# Altium integrated library Linear Technology Operational Amplifiers (LT1000).IntLib: 2280 symbols (part 64 of 79)
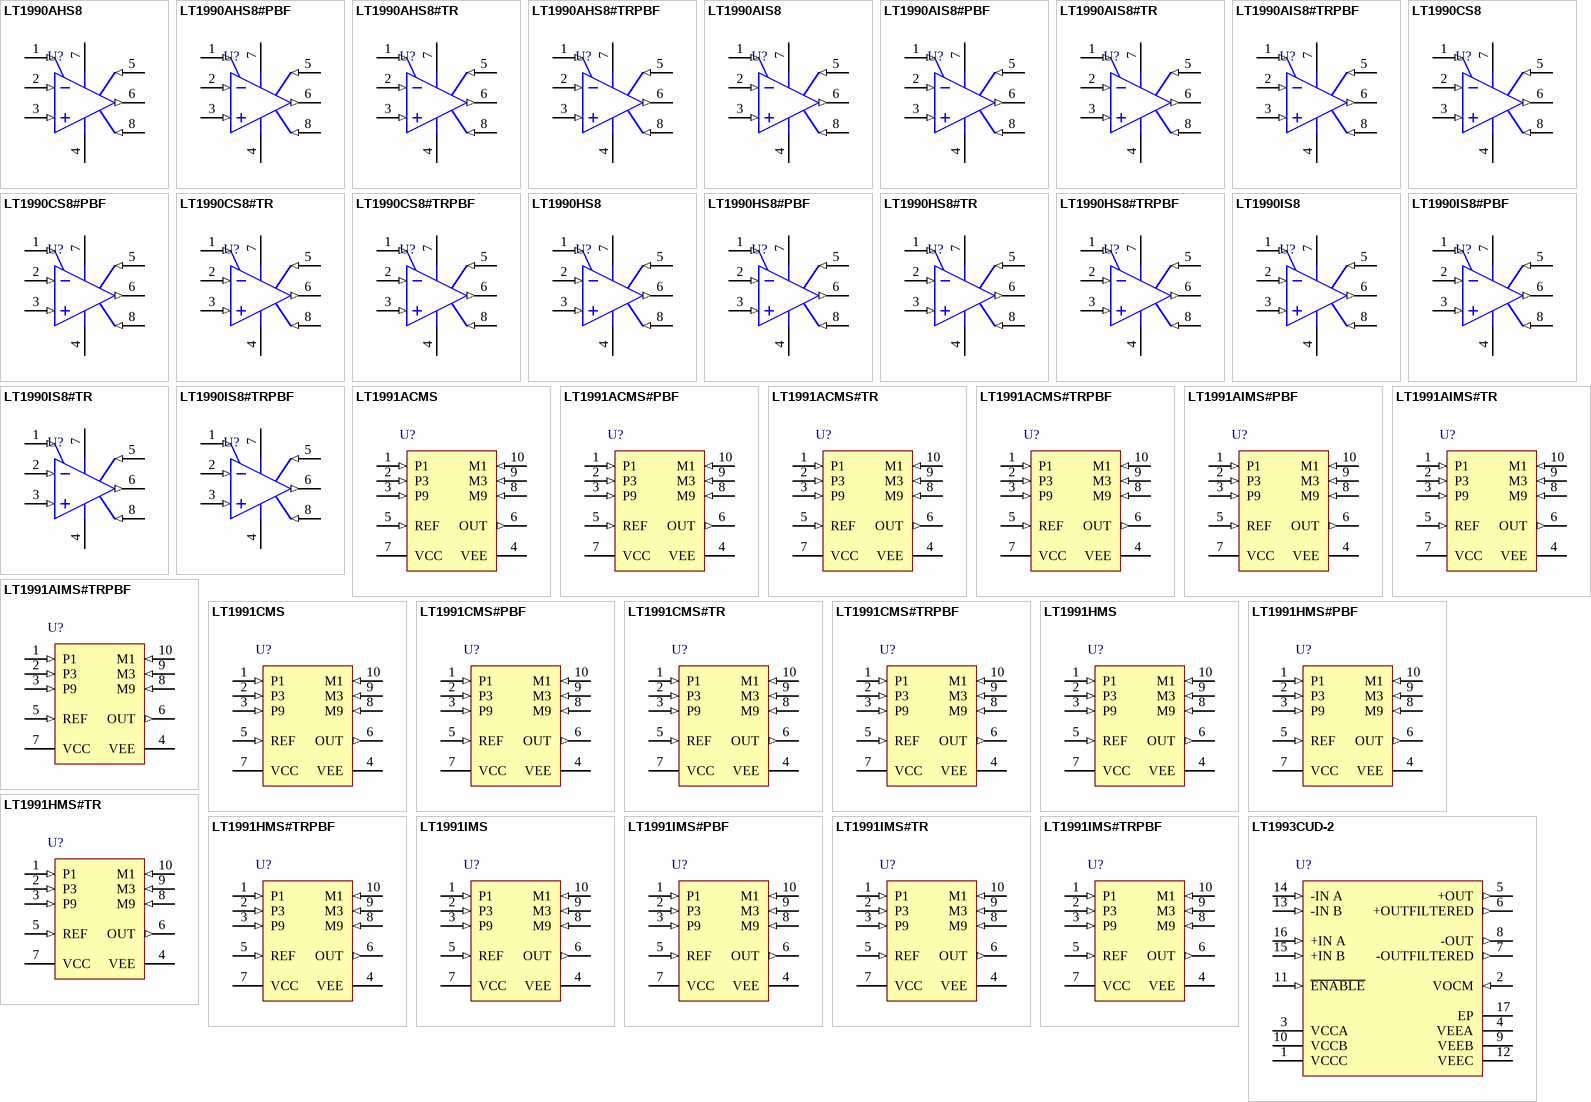
[diagram p168: symbols LT1990AHS8 to LT1993CUD-2]

## LT1990AIS8#PBF
designator U?
Single Channel, Integrated Resistors, Micropower, Difference Amplifier, 0.1 MHz Typical GBW, 0.55 V/us Typical SR, 2.4 to 36 V, 8-Pin SOIC (S8-8), Industrial, Pb-Free; Linear Technology Part Number: LT1990; Manufacturer: Linear Technology; PartNumber: LT1990AIS8#PBF; Channels (#): 1; GBW (MHz) Typical: 0.1; Is (mA) Typical: 0.14; SR (V/us) Typical: 0.55; Vos (mV) Guaranteed: 5.2; Vos (mV) Typical: 0.9; Vs Max (V): 36; Vs Min (V): 2.4; DatasheetVersion: Rev. B; PackageVersion: Rev G; PackageReference: LT-S8-8; PackageDescription: 8-Pin Plastic Small Outline, Body 4.9 x 3.9 mm, Pitch 1.27 mm; Supplier 1: Digi-Key; Supplier Part Number 1: LT1990AIS8#PBF-ND; Supplier 2: Farnell; Supplier Part Number 2: 2294658; Supplier 3: Newark; Supplier Part Number 3: 57M7655; RoHS: Pb-Free; Type: SGA; Mounting Technology: Surface Mount; ComponentLink1Description: Manufacturer URL; ComponentLink1URL: http://www.linear.com/; ComponentLink2Description: Datasheet; ComponentLink2URL: http://cds.linear.com/docs/en/datasheet/1990fb.pdf; ComponentLink3Description: Package Specification; ComponentLink3URL: http://cds.linear.com/docs/en/packaging/05081610_G_SO8.pdf
footprint LT-S8-8_N (SOIC, 8-Leads, Body 4.9x3.9mm, Pitch 1.27mm, IPC Medium Density)
footprint LT-S8-8_L (SOIC, 8-Leads, Body 4.9x3.9mm, Pitch 1.27mm, IPC High Density)
footprint LT-S8-8_M (SOIC, 8-Leads, Body 4.9x3.9mm, Pitch 1.27mm, IPC Low Density)
pins: 1 REF (in) "Reference Input. Sets the output level when the difference between the inputs is zero.", 2 -IN (in) "Inverting Input. Connects a 1Mohm resistor to the op amp’s inverting input. Designed to permit high voltage operation.", 3 +IN (in) "Noninverting Input. Connects a 1Mohm resistor to the op amp’s noninverting input. Designed to permit high voltage operation.", 4 V- (power) "Negative Power Supply. Can be either ground (in single supply applications) or a negative voltage (in split supply applications).", 5 GAIN2 (in) "Gain = 10 Select Input. Configures the amplifier for a gain of 10 when connected to the GAIN1 pin and the REF pin. The gain is equal to one when both GAIN2 and GAIN1 are open. See Applications section for additional (See Datasheet)", 6 OUT (out) "Output. VOUT = G • (V+IN - V-IN) + VREF, in the basic configuration.", 7 V+ (power) "Positive Power Supply. Can range from 2.7V to 36V above the V- voltage.", 8 GAIN1 (in) "Gain = 10 Select Input. Configures the amplifier for a gain of 10 when connected to the GAIN2 pin and the REF pin. The gain is equal to one when both GAIN1 and GAIN2 are open. See Applications section for additional (See Datasheet)"

## LT1990AIS8#TR
designator U?
Single Channel, Integrated Resistors, Micropower, Difference Amplifier, 0.1 MHz Typical GBW, 0.55 V/us Typical SR, 2.4 to 36 V, 8-Pin SOIC (S8-8), Industrial, Reel; Linear Technology Part Number: LT1990; Manufacturer: Linear Technology; PartNumber: LT1990AIS8#TR; Channels (#): 1; GBW (MHz) Typical: 0.1; Is (mA) Typical: 0.14; SR (V/us) Typical: 0.55; Vos (mV) Guaranteed: 5.2; Vos (mV) Typical: 0.9; Vs Max (V): 36; Vs Min (V): 2.4; DatasheetVersion: Rev. B; PackageVersion: Rev G; PackageReference: LT-S8-8; PackageDescription: 8-Pin Plastic Small Outline, Body 4.9 x 3.9 mm, Pitch 1.27 mm; Supplier 1: Digi-Key; Supplier Part Number 1: LT1990AIS8#TR-ND; Packing: Reel; Type: SGA; Mounting Technology: Surface Mount; ComponentLink1Description: Manufacturer URL; ComponentLink1URL: http://www.linear.com/; ComponentLink2Description: Datasheet; ComponentLink2URL: http://cds.linear.com/docs/en/datasheet/1990fb.pdf; ComponentLink3Description: Package Specification; ComponentLink3URL: http://cds.linear.com/docs/en/packaging/05081610_G_SO8.pdf
footprint LT-S8-8_N (SOIC, 8-Leads, Body 4.9x3.9mm, Pitch 1.27mm, IPC Medium Density)
footprint LT-S8-8_L (SOIC, 8-Leads, Body 4.9x3.9mm, Pitch 1.27mm, IPC High Density)
footprint LT-S8-8_M (SOIC, 8-Leads, Body 4.9x3.9mm, Pitch 1.27mm, IPC Low Density)
pins: 1 REF (in) "Reference Input. Sets the output level when the difference between the inputs is zero.", 2 -IN (in) "Inverting Input. Connects a 1Mohm resistor to the op amp’s inverting input. Designed to permit high voltage operation.", 3 +IN (in) "Noninverting Input. Connects a 1Mohm resistor to the op amp’s noninverting input. Designed to permit high voltage operation.", 4 V- (power) "Negative Power Supply. Can be either ground (in single supply applications) or a negative voltage (in split supply applications).", 5 GAIN2 (in) "Gain = 10 Select Input. Configures the amplifier for a gain of 10 when connected to the GAIN1 pin and the REF pin. The gain is equal to one when both GAIN2 and GAIN1 are open. See Applications section for additional (See Datasheet)", 6 OUT (out) "Output. VOUT = G • (V+IN - V-IN) + VREF, in the basic configuration.", 7 V+ (power) "Positive Power Supply. Can range from 2.7V to 36V above the V- voltage.", 8 GAIN1 (in) "Gain = 10 Select Input. Configures the amplifier for a gain of 10 when connected to the GAIN2 pin and the REF pin. The gain is equal to one when both GAIN1 and GAIN2 are open. See Applications section for additional (See Datasheet)"

## LT1990AIS8#TRPBF
designator U?
Single Channel, Integrated Resistors, Micropower, Difference Amplifier, 0.1 MHz Typical GBW, 0.55 V/us Typical SR, 2.4 to 36 V, 8-Pin SOIC (S8-8), Industrial, Pb-Free, Reel; Linear Technology Part Number: LT1990; Manufacturer: Linear Technology; PartNumber: LT1990AIS8#TRPBF; Channels (#): 1; GBW (MHz) Typical: 0.1; Is (mA) Typical: 0.14; SR (V/us) Typical: 0.55; Vos (mV) Guaranteed: 5.2; Vos (mV) Typical: 0.9; Vs Max (V): 36; Vs Min (V): 2.4; DatasheetVersion: Rev. B; PackageVersion: Rev G; PackageReference: LT-S8-8; PackageDescription: 8-Pin Plastic Small Outline, Body 4.9 x 3.9 mm, Pitch 1.27 mm; Supplier 1: Digi-Key; Supplier Part Number 1: LT1990AIS8#TRPBF-ND; Supplier 2: Newark; Supplier Part Number 2: 57M7657; Packing: Reel; RoHS: Pb-Free; Type: SGA; Mounting Technology: Surface Mount; ComponentLink1Description: Manufacturer URL; ComponentLink1URL: http://www.linear.com/; ComponentLink2Description: Datasheet; ComponentLink2URL: http://cds.linear.com/docs/en/datasheet/1990fb.pdf; ComponentLink3Description: Package Specification; ComponentLink3URL: http://cds.linear.com/docs/en/packaging/05081610_G_SO8.pdf
footprint LT-S8-8_N (SOIC, 8-Leads, Body 4.9x3.9mm, Pitch 1.27mm, IPC Medium Density)
footprint LT-S8-8_L (SOIC, 8-Leads, Body 4.9x3.9mm, Pitch 1.27mm, IPC High Density)
footprint LT-S8-8_M (SOIC, 8-Leads, Body 4.9x3.9mm, Pitch 1.27mm, IPC Low Density)
pins: 1 REF (in) "Reference Input. Sets the output level when the difference between the inputs is zero.", 2 -IN (in) "Inverting Input. Connects a 1Mohm resistor to the op amp’s inverting input. Designed to permit high voltage operation.", 3 +IN (in) "Noninverting Input. Connects a 1Mohm resistor to the op amp’s noninverting input. Designed to permit high voltage operation.", 4 V- (power) "Negative Power Supply. Can be either ground (in single supply applications) or a negative voltage (in split supply applications).", 5 GAIN2 (in) "Gain = 10 Select Input. Configures the amplifier for a gain of 10 when connected to the GAIN1 pin and the REF pin. The gain is equal to one when both GAIN2 and GAIN1 are open. See Applications section for additional (See Datasheet)", 6 OUT (out) "Output. VOUT = G • (V+IN - V-IN) + VREF, in the basic configuration.", 7 V+ (power) "Positive Power Supply. Can range from 2.7V to 36V above the V- voltage.", 8 GAIN1 (in) "Gain = 10 Select Input. Configures the amplifier for a gain of 10 when connected to the GAIN2 pin and the REF pin. The gain is equal to one when both GAIN1 and GAIN2 are open. See Applications section for additional (See Datasheet)"

## LT1990CS8
designator U?
Single Channel, Integrated Resistors, Micropower, Difference Amplifier, 0.1 MHz Typical GBW, 0.55 V/us Typical SR, 2.4 to 36 V, 8-Pin SOIC (S8-8), Commercial; Linear Technology Part Number: LT1990; Manufacturer: Linear Technology; PartNumber: LT1990CS8; Channels (#): 1; GBW (MHz) Typical: 0.1; Is (mA) Typical: 0.14; SR (V/us) Typical: 0.55; Vos (mV) Guaranteed: 5.2; Vos (mV) Typical: 0.9; Vs Max (V): 36; Vs Min (V): 2.4; DatasheetVersion: Rev. B; PackageVersion: Rev G; PackageReference: LT-S8-8; PackageDescription: 8-Pin Plastic Small Outline, Body 4.9 x 3.9 mm, Pitch 1.27 mm; Supplier 1: Digi-Key; Supplier Part Number 1: LT1990CS8-ND; Type: SGA; Mounting Technology: Surface Mount; ComponentLink1Description: Manufacturer URL; ComponentLink1URL: http://www.linear.com/; ComponentLink2Description: Datasheet; ComponentLink2URL: http://cds.linear.com/docs/en/datasheet/1990fb.pdf; ComponentLink3Description: Package Specification; ComponentLink3URL: http://cds.linear.com/docs/en/packaging/05081610_G_SO8.pdf
footprint LT-S8-8_N (SOIC, 8-Leads, Body 4.9x3.9mm, Pitch 1.27mm, IPC Medium Density)
footprint LT-S8-8_L (SOIC, 8-Leads, Body 4.9x3.9mm, Pitch 1.27mm, IPC High Density)
footprint LT-S8-8_M (SOIC, 8-Leads, Body 4.9x3.9mm, Pitch 1.27mm, IPC Low Density)
pins: 1 REF (in) "Reference Input. Sets the output level when the difference between the inputs is zero.", 2 -IN (in) "Inverting Input. Connects a 1Mohm resistor to the op amp’s inverting input. Designed to permit high voltage operation.", 3 +IN (in) "Noninverting Input. Connects a 1Mohm resistor to the op amp’s noninverting input. Designed to permit high voltage operation.", 4 V- (power) "Negative Power Supply. Can be either ground (in single supply applications) or a negative voltage (in split supply applications).", 5 GAIN2 (in) "Gain = 10 Select Input. Configures the amplifier for a gain of 10 when connected to the GAIN1 pin and the REF pin. The gain is equal to one when both GAIN2 and GAIN1 are open. See Applications section for additional (See Datasheet)", 6 OUT (out) "Output. VOUT = G • (V+IN - V-IN) + VREF, in the basic configuration.", 7 V+ (power) "Positive Power Supply. Can range from 2.7V to 36V above the V- voltage.", 8 GAIN1 (in) "Gain = 10 Select Input. Configures the amplifier for a gain of 10 when connected to the GAIN2 pin and the REF pin. The gain is equal to one when both GAIN1 and GAIN2 are open. See Applications section for additional (See Datasheet)"

## LT1990CS8#PBF
designator U?
Single Channel, Integrated Resistors, Micropower, Difference Amplifier, 0.1 MHz Typical GBW, 0.55 V/us Typical SR, 2.4 to 36 V, 8-Pin SOIC (S8-8), Commercial, Pb-Free; Linear Technology Part Number: LT1990; Manufacturer: Linear Technology; PartNumber: LT1990CS8#PBF; Channels (#): 1; GBW (MHz) Typical: 0.1; Is (mA) Typical: 0.14; SR (V/us) Typical: 0.55; Vos (mV) Guaranteed: 5.2; Vos (mV) Typical: 0.9; Vs Max (V): 36; Vs Min (V): 2.4; DatasheetVersion: Rev. B; PackageVersion: Rev G; PackageReference: LT-S8-8; PackageDescription: 8-Pin Plastic Small Outline, Body 4.9 x 3.9 mm, Pitch 1.27 mm; Supplier 1: Digi-Key; Supplier Part Number 1: LT1990CS8#PBF-ND; Supplier 2: Farnell; Supplier Part Number 2: 1330733; Supplier 3: Newark; Supplier Part Number 3: 57M7659; RoHS: Pb-Free; Type: SGA; Mounting Technology: Surface Mount; ComponentLink1Description: Manufacturer URL; ComponentLink1URL: http://www.linear.com/; ComponentLink2Description: Datasheet; ComponentLink2URL: http://cds.linear.com/docs/en/datasheet/1990fb.pdf; ComponentLink3Description: Package Specification; ComponentLink3URL: http://cds.linear.com/docs/en/packaging/05081610_G_SO8.pdf
footprint LT-S8-8_N (SOIC, 8-Leads, Body 4.9x3.9mm, Pitch 1.27mm, IPC Medium Density)
footprint LT-S8-8_L (SOIC, 8-Leads, Body 4.9x3.9mm, Pitch 1.27mm, IPC High Density)
footprint LT-S8-8_M (SOIC, 8-Leads, Body 4.9x3.9mm, Pitch 1.27mm, IPC Low Density)
pins: 1 REF (in) "Reference Input. Sets the output level when the difference between the inputs is zero.", 2 -IN (in) "Inverting Input. Connects a 1Mohm resistor to the op amp’s inverting input. Designed to permit high voltage operation.", 3 +IN (in) "Noninverting Input. Connects a 1Mohm resistor to the op amp’s noninverting input. Designed to permit high voltage operation.", 4 V- (power) "Negative Power Supply. Can be either ground (in single supply applications) or a negative voltage (in split supply applications).", 5 GAIN2 (in) "Gain = 10 Select Input. Configures the amplifier for a gain of 10 when connected to the GAIN1 pin and the REF pin. The gain is equal to one when both GAIN2 and GAIN1 are open. See Applications section for additional (See Datasheet)", 6 OUT (out) "Output. VOUT = G • (V+IN - V-IN) + VREF, in the basic configuration.", 7 V+ (power) "Positive Power Supply. Can range from 2.7V to 36V above the V- voltage.", 8 GAIN1 (in) "Gain = 10 Select Input. Configures the amplifier for a gain of 10 when connected to the GAIN2 pin and the REF pin. The gain is equal to one when both GAIN1 and GAIN2 are open. See Applications section for additional (See Datasheet)"

## LT1990CS8#TR
designator U?
Single Channel, Integrated Resistors, Micropower, Difference Amplifier, 0.1 MHz Typical GBW, 0.55 V/us Typical SR, 2.4 to 36 V, 8-Pin SOIC (S8-8), Commercial, Reel; Linear Technology Part Number: LT1990; Manufacturer: Linear Technology; PartNumber: LT1990CS8#TR; Channels (#): 1; GBW (MHz) Typical: 0.1; Is (mA) Typical: 0.14; SR (V/us) Typical: 0.55; Vos (mV) Guaranteed: 5.2; Vos (mV) Typical: 0.9; Vs Max (V): 36; Vs Min (V): 2.4; DatasheetVersion: Rev. B; PackageVersion: Rev G; PackageReference: LT-S8-8; PackageDescription: 8-Pin Plastic Small Outline, Body 4.9 x 3.9 mm, Pitch 1.27 mm; Supplier 1: Digi-Key; Supplier Part Number 1: LT1990CS8#TR-ND; Packing: Reel; Type: SGA; Mounting Technology: Surface Mount; ComponentLink1Description: Manufacturer URL; ComponentLink1URL: http://www.linear.com/; ComponentLink2Description: Datasheet; ComponentLink2URL: http://cds.linear.com/docs/en/datasheet/1990fb.pdf; ComponentLink3Description: Package Specification; ComponentLink3URL: http://cds.linear.com/docs/en/packaging/05081610_G_SO8.pdf
footprint LT-S8-8_N (SOIC, 8-Leads, Body 4.9x3.9mm, Pitch 1.27mm, IPC Medium Density)
footprint LT-S8-8_L (SOIC, 8-Leads, Body 4.9x3.9mm, Pitch 1.27mm, IPC High Density)
footprint LT-S8-8_M (SOIC, 8-Leads, Body 4.9x3.9mm, Pitch 1.27mm, IPC Low Density)
pins: 1 REF (in) "Reference Input. Sets the output level when the difference between the inputs is zero.", 2 -IN (in) "Inverting Input. Connects a 1Mohm resistor to the op amp’s inverting input. Designed to permit high voltage operation.", 3 +IN (in) "Noninverting Input. Connects a 1Mohm resistor to the op amp’s noninverting input. Designed to permit high voltage operation.", 4 V- (power) "Negative Power Supply. Can be either ground (in single supply applications) or a negative voltage (in split supply applications).", 5 GAIN2 (in) "Gain = 10 Select Input. Configures the amplifier for a gain of 10 when connected to the GAIN1 pin and the REF pin. The gain is equal to one when both GAIN2 and GAIN1 are open. See Applications section for additional (See Datasheet)", 6 OUT (out) "Output. VOUT = G • (V+IN - V-IN) + VREF, in the basic configuration.", 7 V+ (power) "Positive Power Supply. Can range from 2.7V to 36V above the V- voltage.", 8 GAIN1 (in) "Gain = 10 Select Input. Configures the amplifier for a gain of 10 when connected to the GAIN2 pin and the REF pin. The gain is equal to one when both GAIN1 and GAIN2 are open. See Applications section for additional (See Datasheet)"

## LT1990CS8#TRPBF
designator U?
Single Channel, Integrated Resistors, Micropower, Difference Amplifier, 0.1 MHz Typical GBW, 0.55 V/us Typical SR, 2.4 to 36 V, 8-Pin SOIC (S8-8), Commercial, Pb-Free, Reel; Linear Technology Part Number: LT1990; Manufacturer: Linear Technology; PartNumber: LT1990CS8#TRPBF; Channels (#): 1; GBW (MHz) Typical: 0.1; Is (mA) Typical: 0.14; SR (V/us) Typical: 0.55; Vos (mV) Guaranteed: 5.2; Vos (mV) Typical: 0.9; Vs Max (V): 36; Vs Min (V): 2.4; DatasheetVersion: Rev. B; PackageVersion: Rev G; PackageReference: LT-S8-8; PackageDescription: 8-Pin Plastic Small Outline, Body 4.9 x 3.9 mm, Pitch 1.27 mm; Supplier 1: Digi-Key; Supplier Part Number 1: LT1990CS8#TRPBF-ND; Supplier 2: Newark; Supplier Part Number 2: 57M7661; Packing: Reel; RoHS: Pb-Free; Type: SGA; Mounting Technology: Surface Mount; ComponentLink1Description: Manufacturer URL; ComponentLink1URL: http://www.linear.com/; ComponentLink2Description: Datasheet; ComponentLink2URL: http://cds.linear.com/docs/en/datasheet/1990fb.pdf; ComponentLink3Description: Package Specification; ComponentLink3URL: http://cds.linear.com/docs/en/packaging/05081610_G_SO8.pdf
footprint LT-S8-8_N (SOIC, 8-Leads, Body 4.9x3.9mm, Pitch 1.27mm, IPC Medium Density)
footprint LT-S8-8_L (SOIC, 8-Leads, Body 4.9x3.9mm, Pitch 1.27mm, IPC High Density)
footprint LT-S8-8_M (SOIC, 8-Leads, Body 4.9x3.9mm, Pitch 1.27mm, IPC Low Density)
pins: 1 REF (in) "Reference Input. Sets the output level when the difference between the inputs is zero.", 2 -IN (in) "Inverting Input. Connects a 1Mohm resistor to the op amp’s inverting input. Designed to permit high voltage operation.", 3 +IN (in) "Noninverting Input. Connects a 1Mohm resistor to the op amp’s noninverting input. Designed to permit high voltage operation.", 4 V- (power) "Negative Power Supply. Can be either ground (in single supply applications) or a negative voltage (in split supply applications).", 5 GAIN2 (in) "Gain = 10 Select Input. Configures the amplifier for a gain of 10 when connected to the GAIN1 pin and the REF pin. The gain is equal to one when both GAIN2 and GAIN1 are open. See Applications section for additional (See Datasheet)", 6 OUT (out) "Output. VOUT = G • (V+IN - V-IN) + VREF, in the basic configuration.", 7 V+ (power) "Positive Power Supply. Can range from 2.7V to 36V above the V- voltage.", 8 GAIN1 (in) "Gain = 10 Select Input. Configures the amplifier for a gain of 10 when connected to the GAIN2 pin and the REF pin. The gain is equal to one when both GAIN1 and GAIN2 are open. See Applications section for additional (See Datasheet)"

## LT1990HS8
designator U?
Single Channel, Integrated Resistors, Micropower, Difference Amplifier, 0.1 MHz Typical GBW, 0.55 V/us Typical SR, 2.4 to 36 V, 8-Pin SOIC (S8-8), High Temperature / Automotive; Linear Technology Part Number: LT1990; Manufacturer: Linear Technology; PartNumber: LT1990HS8; Channels (#): 1; GBW (MHz) Typical: 0.1; Is (mA) Typical: 0.14; SR (V/us) Typical: 0.55; Vos (mV) Guaranteed: 5.2; Vos (mV) Typical: 0.9; Vs Max (V): 36; Vs Min (V): 2.4; DatasheetVersion: Rev. B; PackageVersion: Rev G; PackageReference: LT-S8-8; PackageDescription: 8-Pin Plastic Small Outline, Body 4.9 x 3.9 mm, Pitch 1.27 mm; Type: SGA; Mounting Technology: Surface Mount; ComponentLink1Description: Manufacturer URL; ComponentLink1URL: http://www.linear.com/; ComponentLink2Description: Datasheet; ComponentLink2URL: http://cds.linear.com/docs/en/datasheet/1990fb.pdf; ComponentLink3Description: Package Specification; ComponentLink3URL: http://cds.linear.com/docs/en/packaging/05081610_G_SO8.pdf
footprint LT-S8-8_N (SOIC, 8-Leads, Body 4.9x3.9mm, Pitch 1.27mm, IPC Medium Density)
footprint LT-S8-8_L (SOIC, 8-Leads, Body 4.9x3.9mm, Pitch 1.27mm, IPC High Density)
footprint LT-S8-8_M (SOIC, 8-Leads, Body 4.9x3.9mm, Pitch 1.27mm, IPC Low Density)
pins: 1 REF (in) "Reference Input. Sets the output level when the difference between the inputs is zero.", 2 -IN (in) "Inverting Input. Connects a 1Mohm resistor to the op amp’s inverting input. Designed to permit high voltage operation.", 3 +IN (in) "Noninverting Input. Connects a 1Mohm resistor to the op amp’s noninverting input. Designed to permit high voltage operation.", 4 V- (power) "Negative Power Supply. Can be either ground (in single supply applications) or a negative voltage (in split supply applications).", 5 GAIN2 (in) "Gain = 10 Select Input. Configures the amplifier for a gain of 10 when connected to the GAIN1 pin and the REF pin. The gain is equal to one when both GAIN2 and GAIN1 are open. See Applications section for additional (See Datasheet)", 6 OUT (out) "Output. VOUT = G • (V+IN - V-IN) + VREF, in the basic configuration.", 7 V+ (power) "Positive Power Supply. Can range from 2.7V to 36V above the V- voltage.", 8 GAIN1 (in) "Gain = 10 Select Input. Configures the amplifier for a gain of 10 when connected to the GAIN2 pin and the REF pin. The gain is equal to one when both GAIN1 and GAIN2 are open. See Applications section for additional (See Datasheet)"

## LT1990HS8#PBF
designator U?
Single Channel, Integrated Resistors, Micropower, Difference Amplifier, 0.1 MHz Typical GBW, 0.55 V/us Typical SR, 2.4 to 36 V, 8-Pin SOIC (S8-8), High Temperature / Automotive, Pb-Free; Linear Technology Part Number: LT1990; Manufacturer: Linear Technology; PartNumber: LT1990HS8#PBF; Channels (#): 1; GBW (MHz) Typical: 0.1; Is (mA) Typical: 0.14; SR (V/us) Typical: 0.55; Vos (mV) Guaranteed: 5.2; Vos (mV) Typical: 0.9; Vs Max (V): 36; Vs Min (V): 2.4; DatasheetVersion: Rev. B; PackageVersion: Rev G; PackageReference: LT-S8-8; PackageDescription: 8-Pin Plastic Small Outline, Body 4.9 x 3.9 mm, Pitch 1.27 mm; Supplier 1: Digi-Key; Supplier Part Number 1: LT1990HS8#PBF-ND; Supplier 2: Newark; Supplier Part Number 2: 57M7663; RoHS: Pb-Free; Type: SGA; Mounting Technology: Surface Mount; ComponentLink1Description: Manufacturer URL; ComponentLink1URL: http://www.linear.com/; ComponentLink2Description: Datasheet; ComponentLink2URL: http://cds.linear.com/docs/en/datasheet/1990fb.pdf; ComponentLink3Description: Package Specification; ComponentLink3URL: http://cds.linear.com/docs/en/packaging/05081610_G_SO8.pdf
footprint LT-S8-8_N (SOIC, 8-Leads, Body 4.9x3.9mm, Pitch 1.27mm, IPC Medium Density)
footprint LT-S8-8_L (SOIC, 8-Leads, Body 4.9x3.9mm, Pitch 1.27mm, IPC High Density)
footprint LT-S8-8_M (SOIC, 8-Leads, Body 4.9x3.9mm, Pitch 1.27mm, IPC Low Density)
pins: 1 REF (in) "Reference Input. Sets the output level when the difference between the inputs is zero.", 2 -IN (in) "Inverting Input. Connects a 1Mohm resistor to the op amp’s inverting input. Designed to permit high voltage operation.", 3 +IN (in) "Noninverting Input. Connects a 1Mohm resistor to the op amp’s noninverting input. Designed to permit high voltage operation.", 4 V- (power) "Negative Power Supply. Can be either ground (in single supply applications) or a negative voltage (in split supply applications).", 5 GAIN2 (in) "Gain = 10 Select Input. Configures the amplifier for a gain of 10 when connected to the GAIN1 pin and the REF pin. The gain is equal to one when both GAIN2 and GAIN1 are open. See Applications section for additional (See Datasheet)", 6 OUT (out) "Output. VOUT = G • (V+IN - V-IN) + VREF, in the basic configuration.", 7 V+ (power) "Positive Power Supply. Can range from 2.7V to 36V above the V- voltage.", 8 GAIN1 (in) "Gain = 10 Select Input. Configures the amplifier for a gain of 10 when connected to the GAIN2 pin and the REF pin. The gain is equal to one when both GAIN1 and GAIN2 are open. See Applications section for additional (See Datasheet)"

## LT1990HS8#TR
designator U?
Single Channel, Integrated Resistors, Micropower, Difference Amplifier, 0.1 MHz Typical GBW, 0.55 V/us Typical SR, 2.4 to 36 V, 8-Pin SOIC (S8-8), High Temperature / Automotive, Reel; Linear Technology Part Number: LT1990; Manufacturer: Linear Technology; PartNumber: LT1990HS8#TR; Channels (#): 1; GBW (MHz) Typical: 0.1; Is (mA) Typical: 0.14; SR (V/us) Typical: 0.55; Vos (mV) Guaranteed: 5.2; Vos (mV) Typical: 0.9; Vs Max (V): 36; Vs Min (V): 2.4; DatasheetVersion: Rev. B; PackageVersion: Rev G; PackageReference: LT-S8-8; PackageDescription: 8-Pin Plastic Small Outline, Body 4.9 x 3.9 mm, Pitch 1.27 mm; Packing: Reel; Type: SGA; Mounting Technology: Surface Mount; ComponentLink1Description: Manufacturer URL; ComponentLink1URL: http://www.linear.com/; ComponentLink2Description: Datasheet; ComponentLink2URL: http://cds.linear.com/docs/en/datasheet/1990fb.pdf; ComponentLink3Description: Package Specification; ComponentLink3URL: http://cds.linear.com/docs/en/packaging/05081610_G_SO8.pdf
footprint LT-S8-8_N (SOIC, 8-Leads, Body 4.9x3.9mm, Pitch 1.27mm, IPC Medium Density)
footprint LT-S8-8_L (SOIC, 8-Leads, Body 4.9x3.9mm, Pitch 1.27mm, IPC High Density)
footprint LT-S8-8_M (SOIC, 8-Leads, Body 4.9x3.9mm, Pitch 1.27mm, IPC Low Density)
pins: 1 REF (in) "Reference Input. Sets the output level when the difference between the inputs is zero.", 2 -IN (in) "Inverting Input. Connects a 1Mohm resistor to the op amp’s inverting input. Designed to permit high voltage operation.", 3 +IN (in) "Noninverting Input. Connects a 1Mohm resistor to the op amp’s noninverting input. Designed to permit high voltage operation.", 4 V- (power) "Negative Power Supply. Can be either ground (in single supply applications) or a negative voltage (in split supply applications).", 5 GAIN2 (in) "Gain = 10 Select Input. Configures the amplifier for a gain of 10 when connected to the GAIN1 pin and the REF pin. The gain is equal to one when both GAIN2 and GAIN1 are open. See Applications section for additional (See Datasheet)", 6 OUT (out) "Output. VOUT = G • (V+IN - V-IN) + VREF, in the basic configuration.", 7 V+ (power) "Positive Power Supply. Can range from 2.7V to 36V above the V- voltage.", 8 GAIN1 (in) "Gain = 10 Select Input. Configures the amplifier for a gain of 10 when connected to the GAIN2 pin and the REF pin. The gain is equal to one when both GAIN1 and GAIN2 are open. See Applications section for additional (See Datasheet)"

## LT1990HS8#TRPBF
designator U?
Single Channel, Integrated Resistors, Micropower, Difference Amplifier, 0.1 MHz Typical GBW, 0.55 V/us Typical SR, 2.4 to 36 V, 8-Pin SOIC (S8-8), High Temperature / Automotive, Pb-Free, Reel; Linear Technology Part Number: LT1990; Manufacturer: Linear Technology; PartNumber: LT1990HS8#TRPBF; Channels (#): 1; GBW (MHz) Typical: 0.1; Is (mA) Typical: 0.14; SR (V/us) Typical: 0.55; Vos (mV) Guaranteed: 5.2; Vos (mV) Typical: 0.9; Vs Max (V): 36; Vs Min (V): 2.4; DatasheetVersion: Rev. B; PackageVersion: Rev G; PackageReference: LT-S8-8; PackageDescription: 8-Pin Plastic Small Outline, Body 4.9 x 3.9 mm, Pitch 1.27 mm; Supplier 1: Digi-Key; Supplier Part Number 1: LT1990HS8#TRPBF-ND; Packing: Reel; RoHS: Pb-Free; Type: SGA; Mounting Technology: Surface Mount; ComponentLink1Description: Manufacturer URL; ComponentLink1URL: http://www.linear.com/; ComponentLink2Description: Datasheet; ComponentLink2URL: http://cds.linear.com/docs/en/datasheet/1990fb.pdf; ComponentLink3Description: Package Specification; ComponentLink3URL: http://cds.linear.com/docs/en/packaging/05081610_G_SO8.pdf
footprint LT-S8-8_N (SOIC, 8-Leads, Body 4.9x3.9mm, Pitch 1.27mm, IPC Medium Density)
footprint LT-S8-8_L (SOIC, 8-Leads, Body 4.9x3.9mm, Pitch 1.27mm, IPC High Density)
footprint LT-S8-8_M (SOIC, 8-Leads, Body 4.9x3.9mm, Pitch 1.27mm, IPC Low Density)
pins: 1 REF (in) "Reference Input. Sets the output level when the difference between the inputs is zero.", 2 -IN (in) "Inverting Input. Connects a 1Mohm resistor to the op amp’s inverting input. Designed to permit high voltage operation.", 3 +IN (in) "Noninverting Input. Connects a 1Mohm resistor to the op amp’s noninverting input. Designed to permit high voltage operation.", 4 V- (power) "Negative Power Supply. Can be either ground (in single supply applications) or a negative voltage (in split supply applications).", 5 GAIN2 (in) "Gain = 10 Select Input. Configures the amplifier for a gain of 10 when connected to the GAIN1 pin and the REF pin. The gain is equal to one when both GAIN2 and GAIN1 are open. See Applications section for additional (See Datasheet)", 6 OUT (out) "Output. VOUT = G • (V+IN - V-IN) + VREF, in the basic configuration.", 7 V+ (power) "Positive Power Supply. Can range from 2.7V to 36V above the V- voltage.", 8 GAIN1 (in) "Gain = 10 Select Input. Configures the amplifier for a gain of 10 when connected to the GAIN2 pin and the REF pin. The gain is equal to one when both GAIN1 and GAIN2 are open. See Applications section for additional (See Datasheet)"

## LT1990IS8
designator U?
Single Channel, Integrated Resistors, Micropower, Difference Amplifier, 0.1 MHz Typical GBW, 0.55 V/us Typical SR, 2.4 to 36 V, 8-Pin SOIC (S8-8), Industrial; Linear Technology Part Number: LT1990; Manufacturer: Linear Technology; PartNumber: LT1990IS8; Channels (#): 1; GBW (MHz) Typical: 0.1; Is (mA) Typical: 0.14; SR (V/us) Typical: 0.55; Vos (mV) Guaranteed: 5.2; Vos (mV) Typical: 0.9; Vs Max (V): 36; Vs Min (V): 2.4; DatasheetVersion: Rev. B; PackageVersion: Rev G; PackageReference: LT-S8-8; PackageDescription: 8-Pin Plastic Small Outline, Body 4.9 x 3.9 mm, Pitch 1.27 mm; Supplier 1: Digi-Key; Supplier Part Number 1: LT1990IS8-ND; Supplier 2: Newark; Supplier Part Number 2: 57M7666; Type: SGA; Mounting Technology: Surface Mount; ComponentLink1Description: Manufacturer URL; ComponentLink1URL: http://www.linear.com/; ComponentLink2Description: Datasheet; ComponentLink2URL: http://cds.linear.com/docs/en/datasheet/1990fb.pdf; ComponentLink3Description: Package Specification; ComponentLink3URL: http://cds.linear.com/docs/en/packaging/05081610_G_SO8.pdf
footprint LT-S8-8_N (SOIC, 8-Leads, Body 4.9x3.9mm, Pitch 1.27mm, IPC Medium Density)
footprint LT-S8-8_L (SOIC, 8-Leads, Body 4.9x3.9mm, Pitch 1.27mm, IPC High Density)
footprint LT-S8-8_M (SOIC, 8-Leads, Body 4.9x3.9mm, Pitch 1.27mm, IPC Low Density)
pins: 1 REF (in) "Reference Input. Sets the output level when the difference between the inputs is zero.", 2 -IN (in) "Inverting Input. Connects a 1Mohm resistor to the op amp’s inverting input. Designed to permit high voltage operation.", 3 +IN (in) "Noninverting Input. Connects a 1Mohm resistor to the op amp’s noninverting input. Designed to permit high voltage operation.", 4 V- (power) "Negative Power Supply. Can be either ground (in single supply applications) or a negative voltage (in split supply applications).", 5 GAIN2 (in) "Gain = 10 Select Input. Configures the amplifier for a gain of 10 when connected to the GAIN1 pin and the REF pin. The gain is equal to one when both GAIN2 and GAIN1 are open. See Applications section for additional (See Datasheet)", 6 OUT (out) "Output. VOUT = G • (V+IN - V-IN) + VREF, in the basic configuration.", 7 V+ (power) "Positive Power Supply. Can range from 2.7V to 36V above the V- voltage.", 8 GAIN1 (in) "Gain = 10 Select Input. Configures the amplifier for a gain of 10 when connected to the GAIN2 pin and the REF pin. The gain is equal to one when both GAIN1 and GAIN2 are open. See Applications section for additional (See Datasheet)"

## LT1990IS8#PBF
designator U?
Single Channel, Integrated Resistors, Micropower, Difference Amplifier, 0.1 MHz Typical GBW, 0.55 V/us Typical SR, 2.4 to 36 V, 8-Pin SOIC (S8-8), Industrial, Pb-Free; Linear Technology Part Number: LT1990; Manufacturer: Linear Technology; PartNumber: LT1990IS8#PBF; Channels (#): 1; GBW (MHz) Typical: 0.1; Is (mA) Typical: 0.14; SR (V/us) Typical: 0.55; Vos (mV) Guaranteed: 5.2; Vos (mV) Typical: 0.9; Vs Max (V): 36; Vs Min (V): 2.4; DatasheetVersion: Rev. B; PackageVersion: Rev G; PackageReference: LT-S8-8; PackageDescription: 8-Pin Plastic Small Outline, Body 4.9 x 3.9 mm, Pitch 1.27 mm; Supplier 1: Digi-Key; Supplier Part Number 1: LT1990IS8#PBF-ND; Supplier 2: Newark; Supplier Part Number 2: 57M7667; RoHS: Pb-Free; Type: SGA; Mounting Technology: Surface Mount; ComponentLink1Description: Manufacturer URL; ComponentLink1URL: http://www.linear.com/; ComponentLink2Description: Datasheet; ComponentLink2URL: http://cds.linear.com/docs/en/datasheet/1990fb.pdf; ComponentLink3Description: Package Specification; ComponentLink3URL: http://cds.linear.com/docs/en/packaging/05081610_G_SO8.pdf
footprint LT-S8-8_N (SOIC, 8-Leads, Body 4.9x3.9mm, Pitch 1.27mm, IPC Medium Density)
footprint LT-S8-8_L (SOIC, 8-Leads, Body 4.9x3.9mm, Pitch 1.27mm, IPC High Density)
footprint LT-S8-8_M (SOIC, 8-Leads, Body 4.9x3.9mm, Pitch 1.27mm, IPC Low Density)
pins: 1 REF (in) "Reference Input. Sets the output level when the difference between the inputs is zero.", 2 -IN (in) "Inverting Input. Connects a 1Mohm resistor to the op amp’s inverting input. Designed to permit high voltage operation.", 3 +IN (in) "Noninverting Input. Connects a 1Mohm resistor to the op amp’s noninverting input. Designed to permit high voltage operation.", 4 V- (power) "Negative Power Supply. Can be either ground (in single supply applications) or a negative voltage (in split supply applications).", 5 GAIN2 (in) "Gain = 10 Select Input. Configures the amplifier for a gain of 10 when connected to the GAIN1 pin and the REF pin. The gain is equal to one when both GAIN2 and GAIN1 are open. See Applications section for additional (See Datasheet)", 6 OUT (out) "Output. VOUT = G • (V+IN - V-IN) + VREF, in the basic configuration.", 7 V+ (power) "Positive Power Supply. Can range from 2.7V to 36V above the V- voltage.", 8 GAIN1 (in) "Gain = 10 Select Input. Configures the amplifier for a gain of 10 when connected to the GAIN2 pin and the REF pin. The gain is equal to one when both GAIN1 and GAIN2 are open. See Applications section for additional (See Datasheet)"

## LT1990IS8#TR
designator U?
Single Channel, Integrated Resistors, Micropower, Difference Amplifier, 0.1 MHz Typical GBW, 0.55 V/us Typical SR, 2.4 to 36 V, 8-Pin SOIC (S8-8), Industrial, Reel; Linear Technology Part Number: LT1990; Manufacturer: Linear Technology; PartNumber: LT1990IS8#TR; Channels (#): 1; GBW (MHz) Typical: 0.1; Is (mA) Typical: 0.14; SR (V/us) Typical: 0.55; Vos (mV) Guaranteed: 5.2; Vos (mV) Typical: 0.9; Vs Max (V): 36; Vs Min (V): 2.4; DatasheetVersion: Rev. B; PackageVersion: Rev G; PackageReference: LT-S8-8; PackageDescription: 8-Pin Plastic Small Outline, Body 4.9 x 3.9 mm, Pitch 1.27 mm; Supplier 1: Digi-Key; Supplier Part Number 1: LT1990IS8#TR-ND; Packing: Reel; Type: SGA; Mounting Technology: Surface Mount; ComponentLink1Description: Manufacturer URL; ComponentLink1URL: http://www.linear.com/; ComponentLink2Description: Datasheet; ComponentLink2URL: http://cds.linear.com/docs/en/datasheet/1990fb.pdf; ComponentLink3Description: Package Specification; ComponentLink3URL: http://cds.linear.com/docs/en/packaging/05081610_G_SO8.pdf
footprint LT-S8-8_N (SOIC, 8-Leads, Body 4.9x3.9mm, Pitch 1.27mm, IPC Medium Density)
footprint LT-S8-8_L (SOIC, 8-Leads, Body 4.9x3.9mm, Pitch 1.27mm, IPC High Density)
footprint LT-S8-8_M (SOIC, 8-Leads, Body 4.9x3.9mm, Pitch 1.27mm, IPC Low Density)
pins: 1 REF (in) "Reference Input. Sets the output level when the difference between the inputs is zero.", 2 -IN (in) "Inverting Input. Connects a 1Mohm resistor to the op amp’s inverting input. Designed to permit high voltage operation.", 3 +IN (in) "Noninverting Input. Connects a 1Mohm resistor to the op amp’s noninverting input. Designed to permit high voltage operation.", 4 V- (power) "Negative Power Supply. Can be either ground (in single supply applications) or a negative voltage (in split supply applications).", 5 GAIN2 (in) "Gain = 10 Select Input. Configures the amplifier for a gain of 10 when connected to the GAIN1 pin and the REF pin. The gain is equal to one when both GAIN2 and GAIN1 are open. See Applications section for additional (See Datasheet)", 6 OUT (out) "Output. VOUT = G • (V+IN - V-IN) + VREF, in the basic configuration.", 7 V+ (power) "Positive Power Supply. Can range from 2.7V to 36V above the V- voltage.", 8 GAIN1 (in) "Gain = 10 Select Input. Configures the amplifier for a gain of 10 when connected to the GAIN2 pin and the REF pin. The gain is equal to one when both GAIN1 and GAIN2 are open. See Applications section for additional (See Datasheet)"

## LT1990IS8#TRPBF
designator U?
Single Channel, Integrated Resistors, Micropower, Difference Amplifier, 0.1 MHz Typical GBW, 0.55 V/us Typical SR, 2.4 to 36 V, 8-Pin SOIC (S8-8), Industrial, Pb-Free, Reel; Linear Technology Part Number: LT1990; Manufacturer: Linear Technology; PartNumber: LT1990IS8#TRPBF; Channels (#): 1; GBW (MHz) Typical: 0.1; Is (mA) Typical: 0.14; SR (V/us) Typical: 0.55; Vos (mV) Guaranteed: 5.2; Vos (mV) Typical: 0.9; Vs Max (V): 36; Vs Min (V): 2.4; DatasheetVersion: Rev. B; PackageVersion: Rev G; PackageReference: LT-S8-8; PackageDescription: 8-Pin Plastic Small Outline, Body 4.9 x 3.9 mm, Pitch 1.27 mm; Supplier 1: Digi-Key; Supplier Part Number 1: LT1990IS8#TRPBF-ND; Packing: Reel; RoHS: Pb-Free; Type: SGA; Mounting Technology: Surface Mount; ComponentLink1Description: Manufacturer URL; ComponentLink1URL: http://www.linear.com/; ComponentLink2Description: Datasheet; ComponentLink2URL: http://cds.linear.com/docs/en/datasheet/1990fb.pdf; ComponentLink3Description: Package Specification; ComponentLink3URL: http://cds.linear.com/docs/en/packaging/05081610_G_SO8.pdf
footprint LT-S8-8_N (SOIC, 8-Leads, Body 4.9x3.9mm, Pitch 1.27mm, IPC Medium Density)
footprint LT-S8-8_L (SOIC, 8-Leads, Body 4.9x3.9mm, Pitch 1.27mm, IPC High Density)
footprint LT-S8-8_M (SOIC, 8-Leads, Body 4.9x3.9mm, Pitch 1.27mm, IPC Low Density)
pins: 1 REF (in) "Reference Input. Sets the output level when the difference between the inputs is zero.", 2 -IN (in) "Inverting Input. Connects a 1Mohm resistor to the op amp’s inverting input. Designed to permit high voltage operation.", 3 +IN (in) "Noninverting Input. Connects a 1Mohm resistor to the op amp’s noninverting input. Designed to permit high voltage operation.", 4 V- (power) "Negative Power Supply. Can be either ground (in single supply applications) or a negative voltage (in split supply applications).", 5 GAIN2 (in) "Gain = 10 Select Input. Configures the amplifier for a gain of 10 when connected to the GAIN1 pin and the REF pin. The gain is equal to one when both GAIN2 and GAIN1 are open. See Applications section for additional (See Datasheet)", 6 OUT (out) "Output. VOUT = G • (V+IN - V-IN) + VREF, in the basic configuration.", 7 V+ (power) "Positive Power Supply. Can range from 2.7V to 36V above the V- voltage.", 8 GAIN1 (in) "Gain = 10 Select Input. Configures the amplifier for a gain of 10 when connected to the GAIN2 pin and the REF pin. The gain is equal to one when both GAIN1 and GAIN2 are open. See Applications section for additional (See Datasheet)"

## LT1991ACMS
designator U?
Single Channel, Precision, -13 to 14 Gain Selectable Operational Amplifier, 0.56 MHz Typical GBW, 0.12 V/us Typical SR, 2.4 to 40 V, 10-Pin SOP (MS-10), Commercial; Linear Technology Part Number: LT1991; Manufacturer: Linear Technology; PartNumber: LT1991ACMS; Channels (#): 1; GBW (MHz) Typical: 0.56; Is (mA) Typical: 0.1; SR (V/us) Typical: 0.12; Vos (mV) Guaranteed: 0.05; Vos (mV) Typical: 0.015; Vs Max (V): 40; Vs Min (V): 2.4; DatasheetVersion: Rev. H; PackageVersion: Rev E; PackageReference: LT-MS-10; PackageDescription: 10-Lead Plastic MSOP, Body 3 x 3 mm, Pitch 0.5 mm; Supplier 1: Digi-Key; Supplier Part Number 1: LT1991ACMS-ND; Supplier 2: Newark; Supplier Part Number 2: 57M7674; Type: SGA; Mounting Technology: Surface Mount; ComponentLink1Description: Manufacturer URL; ComponentLink1URL: http://www.linear.com/; ComponentLink2Description: Datasheet; ComponentLink2URL: http://cds.linear.com/docs/en/datasheet/1991fh.pdf; ComponentLink3Description: Package Specification; ComponentLink3URL: http://cds.linear.com/docs/en/packaging/MSOP_10_05-08-1661.pdf
footprint LT-MS-10_N (SOP, 10-Leads, Body 3x3mm, Pitch 0.50mm, IPC Medium Density)
footprint LT-MS-10_L (SOP, 10-Leads, Body 3x3mm, Pitch 0.50mm, IPC High Density)
footprint LT-MS-10_M (SOP, 10-Leads, Body 3x3mm, Pitch 0.50mm, IPC Low Density)
pins: 1 P1 (in) "Noninverting Gain-of-1 input. Connects a 450k internal resistor to the op amp’s noninverting input.", 2 P3 (in) "Noninverting Gain-of-3 input. Connects a 150k internal resistor to the op amp’s noninverting input.", 3 P9 (in) "Noninverting Gain-of-9 input. Connects a 50k internal resistor to the op amp’s noninverting input.", 4 VEE (power) "Negative Power Supply. Can be either ground (in single supply applications), or a negative voltage (in split supply applications).", 5 REF (in) "Reference Input. Sets the output level when difference between inputs is zero. Connects a 450k internal resistor to the op amp’s noninverting input.", 6 OUT (out) "Output. VOUT = VREF + 1 ?(VP1 - VM1) + 3 ?(VP3 - VM3) + 9 ?(VP9 - VM9).", 7 VCC (power) "Positive Power Supply. Can be anything from 2.7V to 36V above the VEE voltage.", 8 M9 (in) "Inverting Gain-of-9 input. Connects a 50k internal resistor to the op amp’s inverting input.", 9 M3 (in) "Inverting Gain-of-3 input. Connects a 150k internal resistor to the op amp’s inverting input.", 10 M1 (in) "Inverting Gain-of-1 input. Connects a 450k internal resistor to the op amp’s inverting input."

## LT1991ACMS#PBF
designator U?
Single Channel, Precision, -13 to 14 Gain Selectable Operational Amplifier, 0.56 MHz Typical GBW, 0.12 V/us Typical SR, 2.4 to 40 V, 10-Pin SOP (MS-10), Commercial, Pb-Free; Linear Technology Part Number: LT1991; Manufacturer: Linear Technology; PartNumber: LT1991ACMS#PBF; Channels (#): 1; GBW (MHz) Typical: 0.56; Is (mA) Typical: 0.1; SR (V/us) Typical: 0.12; Vos (mV) Guaranteed: 0.05; Vos (mV) Typical: 0.015; Vs Max (V): 40; Vs Min (V): 2.4; DatasheetVersion: Rev. H; PackageVersion: Rev E; PackageReference: LT-MS-10; PackageDescription: 10-Lead Plastic MSOP, Body 3 x 3 mm, Pitch 0.5 mm; Supplier 1: Digi-Key; Supplier Part Number 1: LT1991ACMS#PBF-ND; Supplier 2: Farnell; Supplier Part Number 2: 1330734; Supplier 3: Newark; Supplier Part Number 3: 57M7675; RoHS: Pb-Free; Type: SGA; Mounting Technology: Surface Mount; ComponentLink1Description: Manufacturer URL; ComponentLink1URL: http://www.linear.com/; ComponentLink2Description: Datasheet; ComponentLink2URL: http://cds.linear.com/docs/en/datasheet/1991fh.pdf; ComponentLink3Description: Package Specification; ComponentLink3URL: http://cds.linear.com/docs/en/packaging/MSOP_10_05-08-1661.pdf
footprint LT-MS-10_N (SOP, 10-Leads, Body 3x3mm, Pitch 0.50mm, IPC Medium Density)
footprint LT-MS-10_L (SOP, 10-Leads, Body 3x3mm, Pitch 0.50mm, IPC High Density)
footprint LT-MS-10_M (SOP, 10-Leads, Body 3x3mm, Pitch 0.50mm, IPC Low Density)
pins: 1 P1 (in) "Noninverting Gain-of-1 input. Connects a 450k internal resistor to the op amp’s noninverting input.", 2 P3 (in) "Noninverting Gain-of-3 input. Connects a 150k internal resistor to the op amp’s noninverting input.", 3 P9 (in) "Noninverting Gain-of-9 input. Connects a 50k internal resistor to the op amp’s noninverting input.", 4 VEE (power) "Negative Power Supply. Can be either ground (in single supply applications), or a negative voltage (in split supply applications).", 5 REF (in) "Reference Input. Sets the output level when difference between inputs is zero. Connects a 450k internal resistor to the op amp’s noninverting input.", 6 OUT (out) "Output. VOUT = VREF + 1 ?(VP1 - VM1) + 3 ?(VP3 - VM3) + 9 ?(VP9 - VM9).", 7 VCC (power) "Positive Power Supply. Can be anything from 2.7V to 36V above the VEE voltage.", 8 M9 (in) "Inverting Gain-of-9 input. Connects a 50k internal resistor to the op amp’s inverting input.", 9 M3 (in) "Inverting Gain-of-3 input. Connects a 150k internal resistor to the op amp’s inverting input.", 10 M1 (in) "Inverting Gain-of-1 input. Connects a 450k internal resistor to the op amp’s inverting input."

## LT1991ACMS#TR
designator U?
Single Channel, Precision, -13 to 14 Gain Selectable Operational Amplifier, 0.56 MHz Typical GBW, 0.12 V/us Typical SR, 2.4 to 40 V, 10-Pin SOP (MS-10), Commercial, Reel; Linear Technology Part Number: LT1991; Manufacturer: Linear Technology; PartNumber: LT1991ACMS#TR; Channels (#): 1; GBW (MHz) Typical: 0.56; Is (mA) Typical: 0.1; SR (V/us) Typical: 0.12; Vos (mV) Guaranteed: 0.05; Vos (mV) Typical: 0.015; Vs Max (V): 40; Vs Min (V): 2.4; DatasheetVersion: Rev. H; PackageVersion: Rev E; PackageReference: LT-MS-10; PackageDescription: 10-Lead Plastic MSOP, Body 3 x 3 mm, Pitch 0.5 mm; Supplier 1: Digi-Key; Supplier Part Number 1: LT1991ACMS#TR-ND; Packing: Reel; Type: SGA; Mounting Technology: Surface Mount; ComponentLink1Description: Manufacturer URL; ComponentLink1URL: http://www.linear.com/; ComponentLink2Description: Datasheet; ComponentLink2URL: http://cds.linear.com/docs/en/datasheet/1991fh.pdf; ComponentLink3Description: Package Specification; ComponentLink3URL: http://cds.linear.com/docs/en/packaging/MSOP_10_05-08-1661.pdf
footprint LT-MS-10_N (SOP, 10-Leads, Body 3x3mm, Pitch 0.50mm, IPC Medium Density)
footprint LT-MS-10_L (SOP, 10-Leads, Body 3x3mm, Pitch 0.50mm, IPC High Density)
footprint LT-MS-10_M (SOP, 10-Leads, Body 3x3mm, Pitch 0.50mm, IPC Low Density)
pins: 1 P1 (in) "Noninverting Gain-of-1 input. Connects a 450k internal resistor to the op amp’s noninverting input.", 2 P3 (in) "Noninverting Gain-of-3 input. Connects a 150k internal resistor to the op amp’s noninverting input.", 3 P9 (in) "Noninverting Gain-of-9 input. Connects a 50k internal resistor to the op amp’s noninverting input.", 4 VEE (power) "Negative Power Supply. Can be either ground (in single supply applications), or a negative voltage (in split supply applications).", 5 REF (in) "Reference Input. Sets the output level when difference between inputs is zero. Connects a 450k internal resistor to the op amp’s noninverting input.", 6 OUT (out) "Output. VOUT = VREF + 1 ?(VP1 - VM1) + 3 ?(VP3 - VM3) + 9 ?(VP9 - VM9).", 7 VCC (power) "Positive Power Supply. Can be anything from 2.7V to 36V above the VEE voltage.", 8 M9 (in) "Inverting Gain-of-9 input. Connects a 50k internal resistor to the op amp’s inverting input.", 9 M3 (in) "Inverting Gain-of-3 input. Connects a 150k internal resistor to the op amp’s inverting input.", 10 M1 (in) "Inverting Gain-of-1 input. Connects a 450k internal resistor to the op amp’s inverting input."

## LT1991ACMS#TRPBF
designator U?
Single Channel, Precision, -13 to 14 Gain Selectable Operational Amplifier, 0.56 MHz Typical GBW, 0.12 V/us Typical SR, 2.4 to 40 V, 10-Pin SOP (MS-10), Commercial, Pb-Free, Reel; Linear Technology Part Number: LT1991; Manufacturer: Linear Technology; PartNumber: LT1991ACMS#TRPBF; Channels (#): 1; GBW (MHz) Typical: 0.56; Is (mA) Typical: 0.1; SR (V/us) Typical: 0.12; Vos (mV) Guaranteed: 0.05; Vos (mV) Typical: 0.015; Vs Max (V): 40; Vs Min (V): 2.4; DatasheetVersion: Rev. H; PackageVersion: Rev E; PackageReference: LT-MS-10; PackageDescription: 10-Lead Plastic MSOP, Body 3 x 3 mm, Pitch 0.5 mm; Supplier 1: Digi-Key; Supplier Part Number 1: LT1991ACMS#TRPBF-ND; Supplier 2: Newark; Supplier Part Number 2: 57M7677; Packing: Reel; RoHS: Pb-Free; Type: SGA; Mounting Technology: Surface Mount; ComponentLink1Description: Manufacturer URL; ComponentLink1URL: http://www.linear.com/; ComponentLink2Description: Datasheet; ComponentLink2URL: http://cds.linear.com/docs/en/datasheet/1991fh.pdf; ComponentLink3Description: Package Specification; ComponentLink3URL: http://cds.linear.com/docs/en/packaging/MSOP_10_05-08-1661.pdf
footprint LT-MS-10_N (SOP, 10-Leads, Body 3x3mm, Pitch 0.50mm, IPC Medium Density)
footprint LT-MS-10_L (SOP, 10-Leads, Body 3x3mm, Pitch 0.50mm, IPC High Density)
footprint LT-MS-10_M (SOP, 10-Leads, Body 3x3mm, Pitch 0.50mm, IPC Low Density)
pins: 1 P1 (in) "Noninverting Gain-of-1 input. Connects a 450k internal resistor to the op amp’s noninverting input.", 2 P3 (in) "Noninverting Gain-of-3 input. Connects a 150k internal resistor to the op amp’s noninverting input.", 3 P9 (in) "Noninverting Gain-of-9 input. Connects a 50k internal resistor to the op amp’s noninverting input.", 4 VEE (power) "Negative Power Supply. Can be either ground (in single supply applications), or a negative voltage (in split supply applications).", 5 REF (in) "Reference Input. Sets the output level when difference between inputs is zero. Connects a 450k internal resistor to the op amp’s noninverting input.", 6 OUT (out) "Output. VOUT = VREF + 1 ?(VP1 - VM1) + 3 ?(VP3 - VM3) + 9 ?(VP9 - VM9).", 7 VCC (power) "Positive Power Supply. Can be anything from 2.7V to 36V above the VEE voltage.", 8 M9 (in) "Inverting Gain-of-9 input. Connects a 50k internal resistor to the op amp’s inverting input.", 9 M3 (in) "Inverting Gain-of-3 input. Connects a 150k internal resistor to the op amp’s inverting input.", 10 M1 (in) "Inverting Gain-of-1 input. Connects a 450k internal resistor to the op amp’s inverting input."